# EAGLE library part STM32F103V (library stm32)
Cortex-M3 STM32F103V LQFP-100
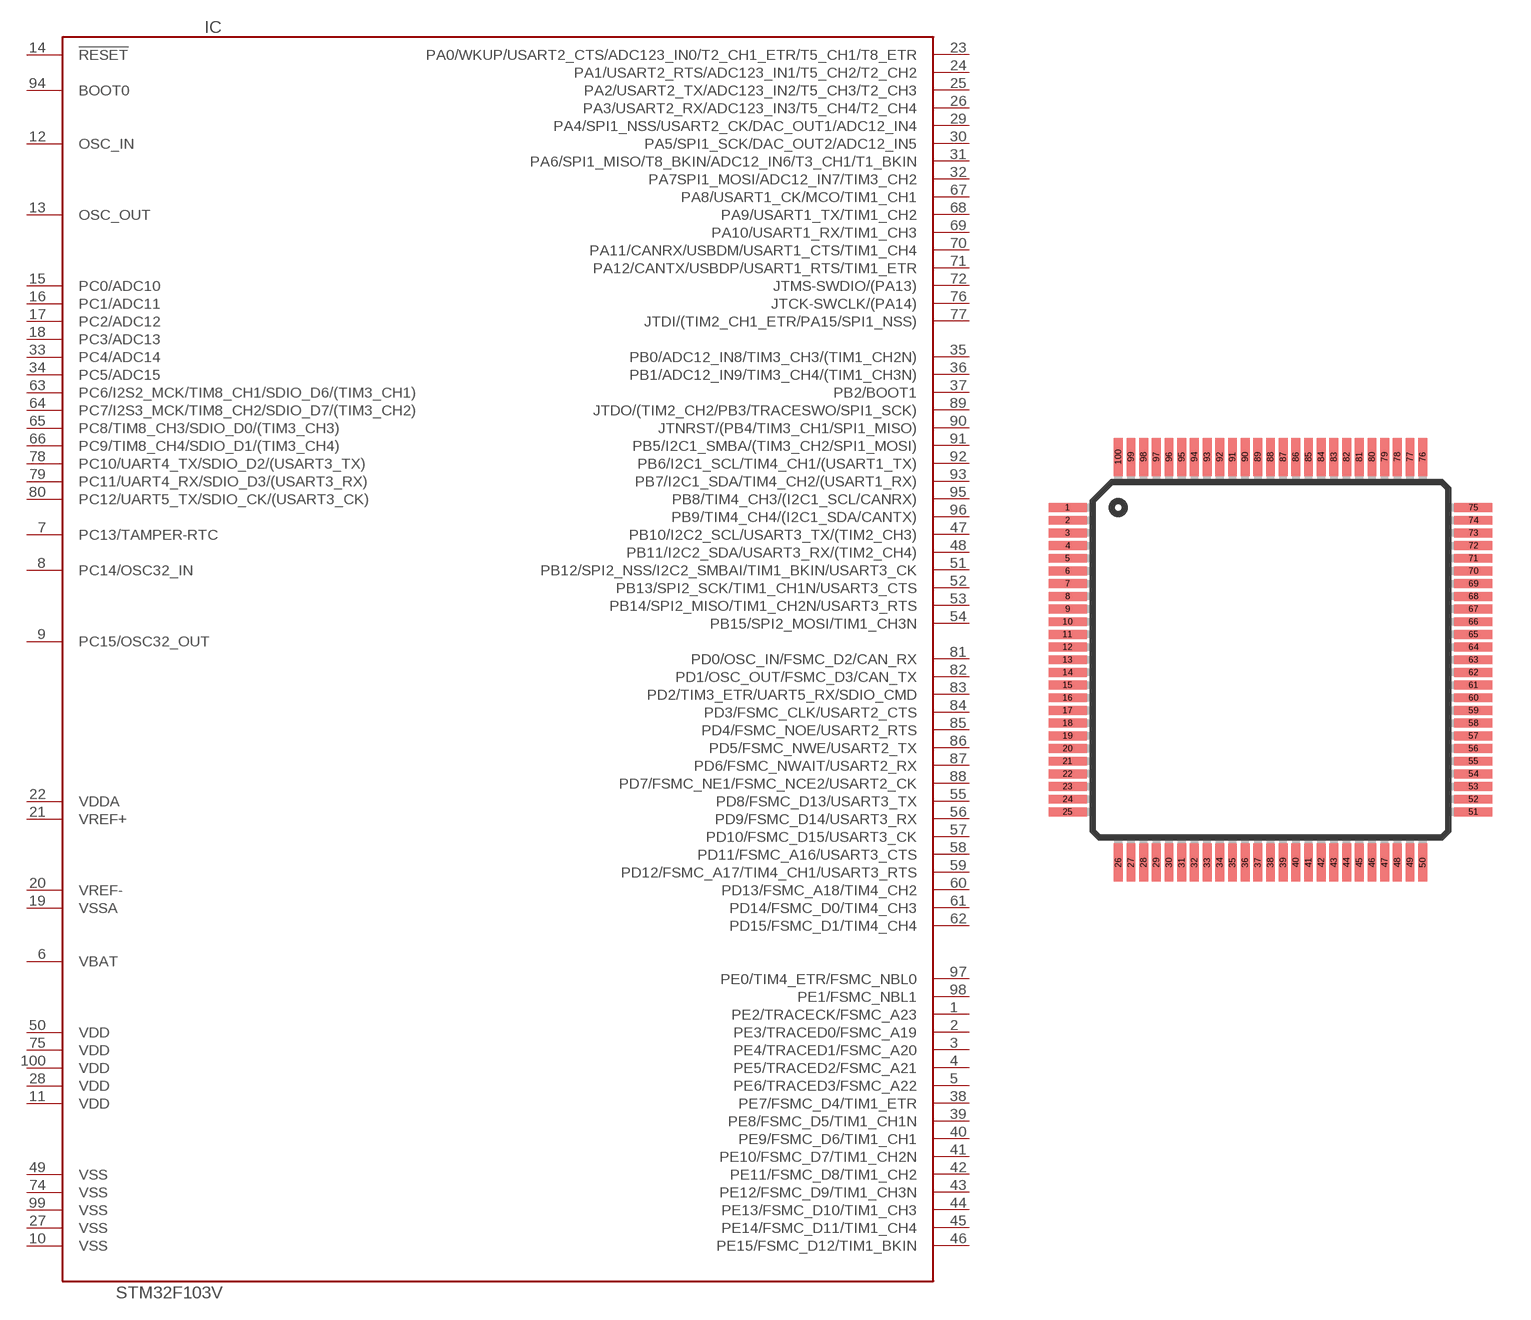
[diagram p8: symbol with the pads of TQFP100; footprint TQFP100]

Designator prefix IC

## STM32F103V  [TQFP100]
1  PE2/TRACECK/FSMC_A23
2  PE3/TRACED0/FSMC_A19
3  PE4/TRACED1/FSMC_A20
4  PE5/TRACED2/FSMC_A21
5  PE6/TRACED3/FSMC_A22
6  VBAT  pwr
7  PC13/TAMPER-RTC
8  PC14/OSC32_IN
9  PC15/OSC32_OUT
10  VSS  pwr
11  VDD  pwr
12  OSC_IN  in
13  OSC_OUT  out
14  !RESET  in
15  PC0/ADC10
16  PC1/ADC11
17  PC2/ADC12
18  PC3/ADC13
19  VSSA  pwr
20  VREF-  pwr
21  VREF+  pwr
22  VDDA  pwr
23  PA0/WKUP/USART2_CTS/ADC123_IN0/T2_CH1_ETR/T5_CH1/T8_ETR
24  PA1/USART2_RTS/ADC123_IN1/T5_CH2/T2_CH2
25  PA2/USART2_TX/ADC123_IN2/T5_CH3/T2_CH3
26  PA3/USART2_RX/ADC123_IN3/T5_CH4/T2_CH4
27  VSS  pwr
28  VDD  pwr
29  PA4/SPI1_NSS/USART2_CK/DAC_OUT1/ADC12_IN4
30  PA5/SPI1_SCK/DAC_OUT2/ADC12_IN5
31  PA6/SPI1_MISO/T8_BKIN/ADC12_IN6/T3_CH1/T1_BKIN
32  PA7SPI1_MOSI/ADC12_IN7/TIM3_CH2
33  PC4/ADC14
34  PC5/ADC15
35  PB0/ADC12_IN8/TIM3_CH3/(TIM1_CH2N)
36  PB1/ADC12_IN9/TIM3_CH4/(TIM1_CH3N)
37  PB2/BOOT1
38  PE7/FSMC_D4/TIM1_ETR
39  PE8/FSMC_D5/TIM1_CH1N
40  PE9/FSMC_D6/TIM1_CH1
41  PE10/FSMC_D7/TIM1_CH2N
42  PE11/FSMC_D8/TIM1_CH2
43  PE12/FSMC_D9/TIM1_CH3N
44  PE13/FSMC_D10/TIM1_CH3
45  PE14/FSMC_D11/TIM1_CH4
46  PE15/FSMC_D12/TIM1_BKIN
47  PB10/I2C2_SCL/USART3_TX/(TIM2_CH3)
48  PB11/I2C2_SDA/USART3_RX/(TIM2_CH4)
49  VSS  pwr
50  VDD  pwr
51  PB12/SPI2_NSS/I2C2_SMBAI/TIM1_BKIN/USART3_CK
52  PB13/SPI2_SCK/TIM1_CH1N/USART3_CTS
53  PB14/SPI2_MISO/TIM1_CH2N/USART3_RTS
54  PB15/SPI2_MOSI/TIM1_CH3N
55  PD8/FSMC_D13/USART3_TX
56  PD9/FSMC_D14/USART3_RX
57  PD10/FSMC_D15/USART3_CK
58  PD11/FSMC_A16/USART3_CTS
59  PD12/FSMC_A17/TIM4_CH1/USART3_RTS
60  PD13/FSMC_A18/TIM4_CH2
61  PD14/FSMC_D0/TIM4_CH3
62  PD15/FSMC_D1/TIM4_CH4
63  PC6/I2S2_MCK/TIM8_CH1/SDIO_D6/(TIM3_CH1)
64  PC7/I2S3_MCK/TIM8_CH2/SDIO_D7/(TIM3_CH2)
65  PC8/TIM8_CH3/SDIO_D0/(TIM3_CH3)
66  PC9/TIM8_CH4/SDIO_D1/(TIM3_CH4)
67  PA8/USART1_CK/MCO/TIM1_CH1
68  PA9/USART1_TX/TIM1_CH2
69  PA10/USART1_RX/TIM1_CH3
70  PA11/CANRX/USBDM/USART1_CTS/TIM1_CH4
71  PA12/CANTX/USBDP/USART1_RTS/TIM1_ETR
72  JTMS-SWDIO/(PA13)
74  VSS  pwr
75  VDD  pwr
76  JTCK-SWCLK/(PA14)
77  JTDI/(TIM2_CH1_ETR/PA15/SPI1_NSS)
78  PC10/UART4_TX/SDIO_D2/(USART3_TX)
79  PC11/UART4_RX/SDIO_D3/(USART3_RX)
80  PC12/UART5_TX/SDIO_CK/(USART3_CK)
81  PD0/OSC_IN/FSMC_D2/CAN_RX
82  PD1/OSC_OUT/FSMC_D3/CAN_TX
83  PD2/TIM3_ETR/UART5_RX/SDIO_CMD
84  PD3/FSMC_CLK/USART2_CTS
85  PD4/FSMC_NOE/USART2_RTS
86  PD5/FSMC_NWE/USART2_TX
87  PD6/FSMC_NWAIT/USART2_RX
88  PD7/FSMC_NE1/FSMC_NCE2/USART2_CK
89  JTDO/(TIM2_CH2/PB3/TRACESWO/SPI1_SCK)
90  JTNRST/(PB4/TIM3_CH1/SPI1_MISO)
91  PB5/I2C1_SMBA/(TIM3_CH2/SPI1_MOSI)
92  PB6/I2C1_SCL/TIM4_CH1/(USART1_TX)
93  PB7/I2C1_SDA/TIM4_CH2/(USART1_RX)
94  BOOT0  in
95  PB8/TIM4_CH3/(I2C1_SCL/CANRX)
96  PB9/TIM4_CH4/(I2C1_SDA/CANTX)
97  PE0/TIM4_ETR/FSMC_NBL0
98  PE1/FSMC_NBL1
99  VSS  pwr
100  VDD  pwr

## Footprint TQFP100 (pad centres in mm)
smd 1.5 x 0.35: 1 -8,6; 2 -8,5.5; 3 -8,5; 4 -8,4.5; 5 -8,4; 6 -8,3.5; 7 -8,3; 8 -8,2.5; 9 -8,2; 10 -8,1.5; 11 -8,1; 12 -8,0.5; 13 -8,0; 14 -8,-0.5; 15 -8,-1; 16 -8,-1.5; 17 -8,-2; 18 -8,-2.5; 19 -8,-3; 20 -8,-3.5; 21 -8,-4; 22 -8,-4.5; 23 -8,-5; 24 -8,-5.5; 25 -8,-6; 51 8,-6; 52 8,-5.5; 53 8,-5; 54 8,-4.5; 55 8,-4; 56 8,-3.5; 57 8,-3; 58 8,-2.5; 59 8,-2; 60 8,-1.5; 61 8,-1; 62 8,-0.5; 63 8,0; 64 8,0.5; 65 8,1; 66 8,1.5; 67 8,2; 68 8,2.5; 69 8,3; 70 8,3.5; 71 8,4; 72 8,4.5; 73 8,5; 74 8,5.5; 75 8,6
smd 0.35 x 1.5: 26 -6,-8; 27 -5.5,-8; 28 -5,-8; 29 -4.5,-8; 30 -4,-8; 31 -3.5,-8; 32 -3,-8; 33 -2.5,-8; 34 -2,-8; 35 -1.5,-8; 36 -1,-8; 37 -0.5,-8; 38 0,-8; 39 0.5,-8; 40 1,-8; 41 1.5,-8; 42 2,-8; 43 2.5,-8; 44 3,-8; 45 3.5,-8; 46 4,-8; 47 4.5,-8; 48 5,-8; 49 5.5,-8; 50 6,-8; 76 6,8; 77 5.5,8; 78 5,8; 79 4.5,8; 80 4,8; 81 3.5,8; 82 3,8; 83 2.5,8; 84 2,8; 85 1.5,8; 86 1,8; 87 0.5,8; 88 0,8; 89 -0.5,8; 90 -1,8; 91 -1.5,8; 92 -2,8; 93 -2.5,8; 94 -3,8; 95 -3.5,8; 96 -4,8; 97 -4.5,8; 98 -5,8; 99 -5.5,8; 100 -6,8